# Altium integrated library GBU404.IntLib: 1 symbol
Pins are listed as number, name and electrical type; pins without a type are passive.

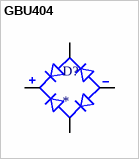
[diagram p0: symbol GBU404]

## GBU404
designator D?
Bridge Rectifier Single Phase Standard 400 V Through Hole GBU; MP: GBU404; MF: Diodes Inc.; Purchase-URL: https://pricing.snapeda.com/search/part/GBU404/?ref=eda; SnapEDA_Link: https://www.snapeda.com/parts/GBU404/Diodes+Inc./view-part/?ref=snap; Price: None; Package: SIP-4 Diodes Incorporated; Check_prices: https://www.snapeda.com/parts/GBU404/Diodes+Inc./view-part/?ref=eda; Value: *; Availability: In Stock
footprint SIP343W114P508L2205H2134Q4
pins: AC1, AC2, NEG, POS